# Altium schematic symbol library CoulombCounters.SchLib: 1 symbol
Pins are listed as number, name and electrical type; pins without a type are passive.

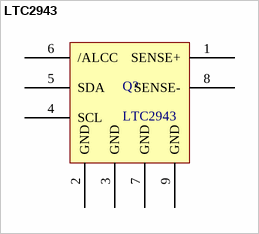
[diagram p0: symbol LTC2943]

## LTC2943
designator Q?
Multicell Battery Gas Gauge  with Temperature, Voltage   and Current Measurement
footprint DD Package (8- Lead Plastic DFN  (3mmx3mm))
pins: 1 SENSE+, 2 GND, 3 GND, 4 SCL, 5 SDA, 6 /ALCC, 7 GND, 8 SENSE-, 9 GND